# EAGLE library part DRV8835 (library DRV8835)
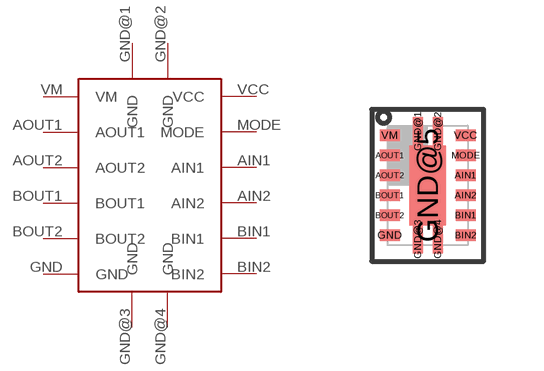
[diagram p0: symbol with the pads of DRV8835; footprint DRV8835]

Designator prefix -

## DRV8835  [DRV8835]
AIN1  AIN1
AIN2  AIN2
AOUT1  AOUT1
AOUT2  AOUT2
BIN1  BIN1
BIN2  BIN2
BOUT1  BOUT1
BOUT2  BOUT2
GND  GND
GND@1  GND
GND@2  GND
GND@3  GND
GND@4  GND
GND@5  GND  pwr
MODE  MODE
VCC  VCC
VM  VM

## Footprint DRV8835 (pad centres in mm)
smd 0.5 x 0.28: AIN1 0.95,0.25; AIN2 0.95,-0.25; AOUT1 -0.95,0.75; AOUT2 -0.95,0.25; BIN1 0.95,-0.75; BIN2 0.95,-1.25; BOUT1 -0.95,-0.25; BOUT2 -0.95,-0.75; GND -0.95,-1.25; MODE 0.95,0.75; VCC 0.95,1.25; VM -0.95,1.25
smd 0.25 x 0.7: GND@1 -0.25,1.35; GND@2 0.25,1.35; GND@3 -0.25,-1.35; GND@4 0.25,-1.35
smd 0.9 x 2: GND@5 0,0